# Altium footprint library DISCRETE_T1.PcbLib: 293 footprints (part 1 of 19)
Each footprint in its own frame and in the unit in brackets; x right, y up, seen from the top. Pads: shape width x height; smd on the part's side, far side on the other; paste and mask are expansions set on the pad; w line width, h text height; cw(c..) or ccw(c..) is an arc to the next point about the centre after c.
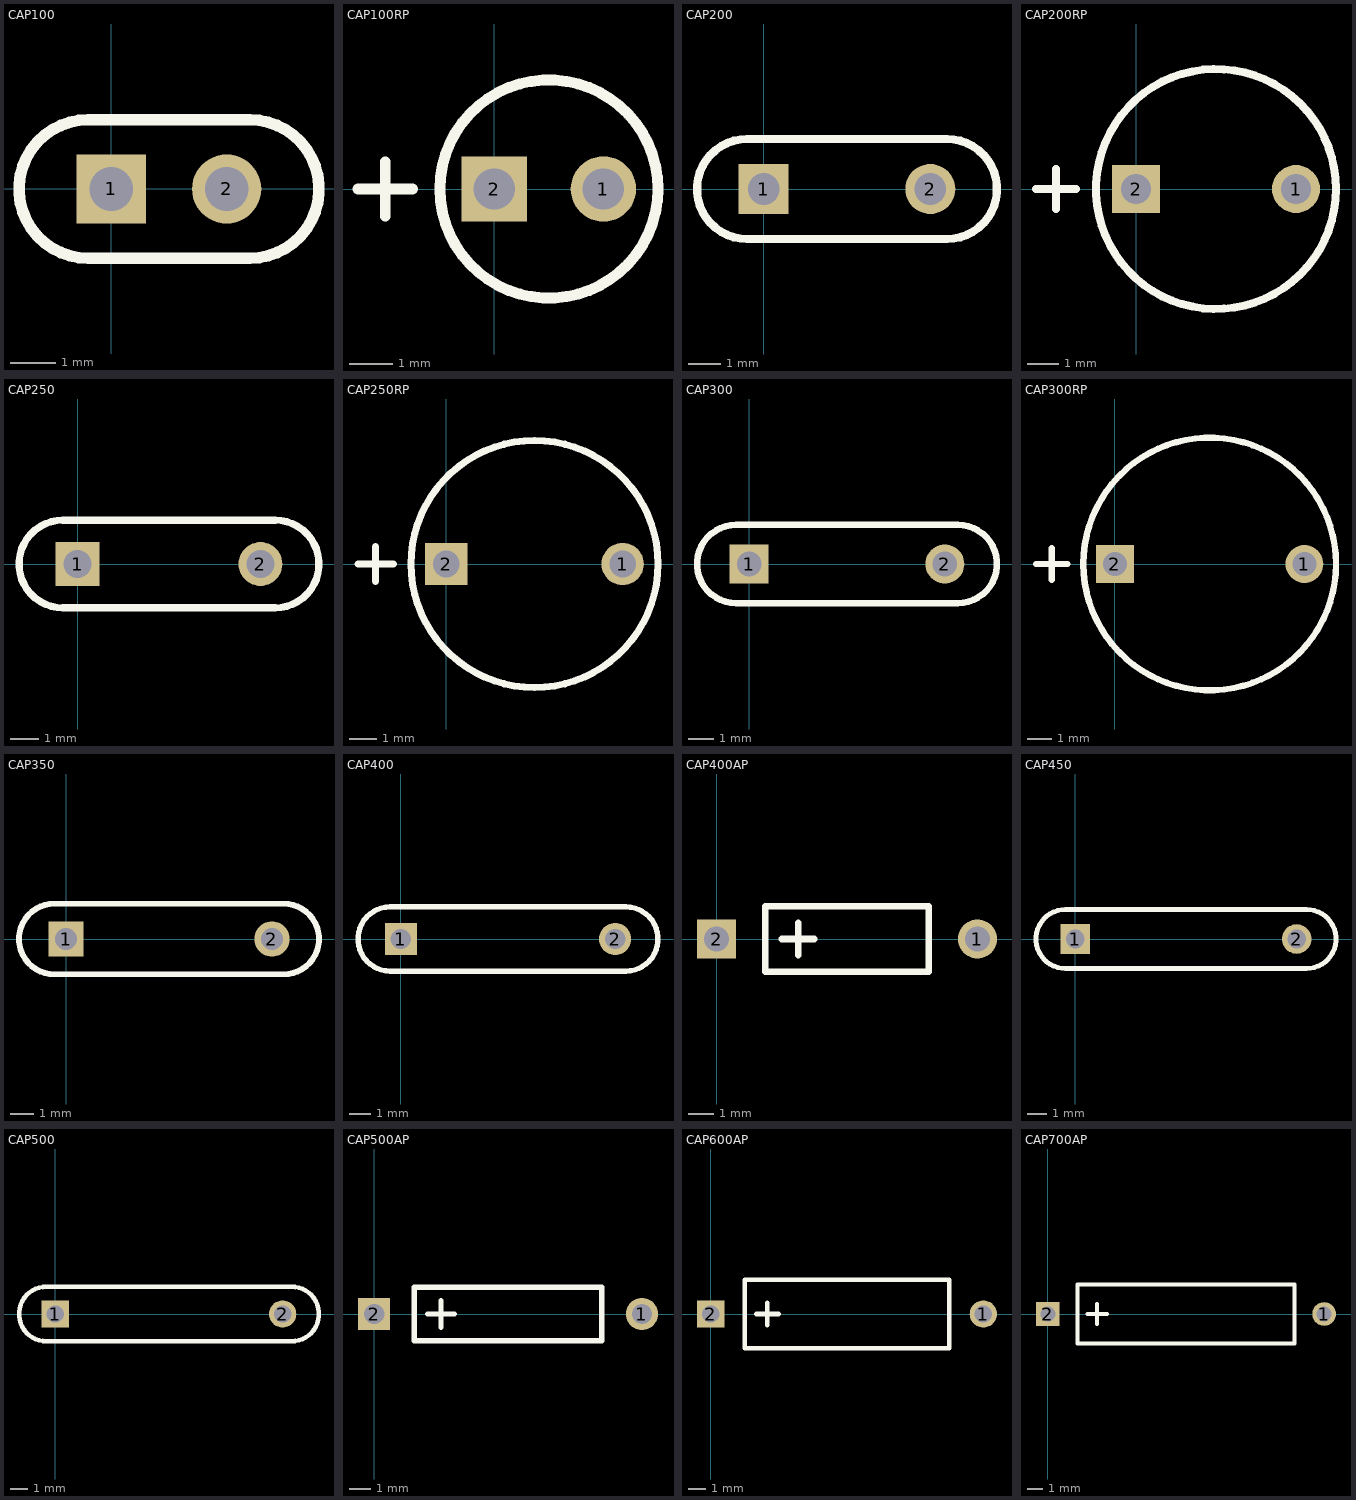
[diagram p0: the footprints below, top view; thin cyan lines are the x and y axes]

## CAP100 [mil]
pads (2):
  rect 60x60 hole 38: 1(0,0)
  round 60 hole 38: 2(100,0)
Top Overlay:
  lines w10: -20,-60 cw(c-20,0) -20,60 120,60 cw(c120,0) 120,-60 -20,-60

## CAP100RP [mil]
pads (2):
  round 60 hole 38: 1(100,0)
  rect 60x60 hole 38: 2(0,0)
Top Overlay:
  circle w10: c50,0 r100
  lines w10: -125,0 -75,0 ; -100,-25 -100,25

## CAP200 [mil]
pads (2):
  rect 60x60 hole 38: 1(0,0)
  round 60 hole 38: 2(200,0)
Top Overlay:
  lines w10: -20,-60 cw(c-20,0) -20,60 220,60 cw(c220,0) 220,-60 -20,-60

## CAP200RP [mil]
pads (2):
  round 60 hole 38: 1(200,0)
  rect 60x60 hole 38: 2(0,0)
Top Overlay:
  circle w10: c100,0 r150
  lines w10: -125,0 -75,0 ; -100,-25 -100,25

## CAP250 [mil]
pads (2):
  rect 60x60 hole 38: 1(0,0)
  round 60 hole 38: 2(250,0)
Top Overlay:
  lines w10: -20,-60 cw(c-20,0) -20,60 270,60 cw(c270,0) 270,-60 -20,-60

## CAP250RP [mil]
pads (2):
  round 60 hole 38: 1(250,0)
  rect 60x60 hole 38: 2(0,0)
Top Overlay:
  circle w10: c125,0 r175
  lines w10: -125,0 -75,0 ; -100,-25 -100,25

## CAP300 [mil]
pads (2):
  rect 60x60 hole 38: 1(0,0)
  round 60 hole 38: 2(300,0)
Top Overlay:
  lines w10: -20,-60 cw(c-20,0) -20,60 320,60 cw(c320,0) 320,-60 -20,-60

## CAP300RP [mil]
pads (2):
  round 60 hole 38: 1(300,0)
  rect 60x60 hole 38: 2(0,0)
Top Overlay:
  circle w10: c150,0 r200
  lines w10: -125,0 -75,0 ; -100,-25 -100,25

## CAP350 [mil]
pads (2):
  rect 60x60 hole 38: 1(0,0)
  round 60 hole 38: 2(350,0)
Top Overlay:
  lines w10: -20,-60 cw(c-20,0) -20,60 370,60 cw(c370,0) 370,-60 -20,-60

## CAP400 [mil]
pads (2):
  rect 60x60 hole 38: 1(0,0)
  round 60 hole 38: 2(400,0)
Top Overlay:
  lines w10: -20,-60 cw(c-20,0) -20,60 420,60 cw(c420,0) 420,-60 -20,-60

## CAP400AP [mil]
pads (2):
  round 60 hole 38: 1(400,0)
  rect 60x60 hole 38: 2(0,0)
Top Overlay:
  lines w10: 100,0 150,0 ; 125,-25 125,25 ; 75,-50 75,50 325,50 325,-50 75,-50

## CAP450 [mil]
pads (2):
  rect 60x60 hole 38: 1(0,0)
  round 60 hole 38: 2(450,0)
Top Overlay:
  lines w10: -20,-60 cw(c-20,0) -20,60 470,60 cw(c470,0) 470,-60 -20,-60

## CAP500 [mil]
pads (2):
  rect 60x60 hole 38: 1(0,0)
  round 60 hole 38: 2(500,0)
Top Overlay:
  lines w10: -20,-60 cw(c-20,0) -20,60 520,60 cw(c520,0) 520,-60 -20,-60

## CAP500AP [mil]
pads (2):
  round 60 hole 38: 1(500,0)
  rect 60x60 hole 38: 2(0,0)
Top Overlay:
  lines w10: 100,0 150,0 ; 125,-25 125,25 ; 75,-50 75,50 425,50 425,-50 75,-50

## CAP600AP [mil]
pads (2):
  round 60 hole 38: 1(600,0)
  rect 60x60 hole 38: 2(0,0)
Top Overlay:
  lines w10: 100,0 150,0 ; 125,-25 125,25 ; 75,-75 525,-75 525,75 75,75 75,-75

## CAP700AP [mil]
pads (2):
  round 60 hole 38: 1(700,0)
  rect 60x60 hole 38: 2(0,0)
Top Overlay:
  lines w10: 100,0 150,0 ; 125,-25 125,25 ; 75,-75 625,-75 625,75 75,75 75,-75